# Altium footprint library CONVERSORES.PcbLib: 4 footprints
Each footprint in its own frame and in the unit in brackets; x right, y up, seen from the top. Pads: shape width x height; smd on the part's side, far side on the other; paste and mask are expansions set on the pad; w line width, h text height; cw(c..) or ccw(c..) is an arc to the next point about the centre after c.
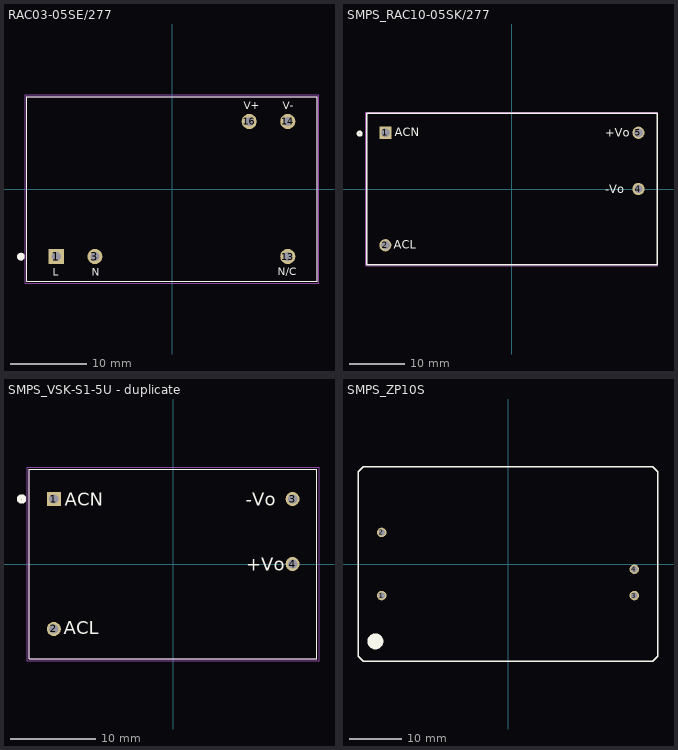
[diagram p0: the footprints below, top view; thin cyan lines are the x and y axes]

## RAC03-05SE/277 [mm] "Enclosed AC DC Converter 1 Output"
height 17.4
pads (5):
  rect 2x2 hole 1.2: 1(-15.24,-8.89)
  round 2 hole 1.2: 3(-10.16,-8.89) 13(15.24,-8.89) 14(15.24,8.89) 16(10.16,8.89)
Top Overlay:
  circle w0.5: c-19.9,-8.9 r0.25
  lines w0.127: -19.1,-12.15 19.1,-12.15 19.1,12.15 -19.1,12.15 -19.1,-12.15
  text "V-" at 14.6,10.5 h1
  text "V+" at 9.45,10.525 h1
  text "N/C" at 13.9,-11.35 h1
  text "N" at -10.575,-11.45 h1
  text "L" at -15.7,-11.45 h1
Mechanical 4:
  circle w0.5: c-19.9,-8.89 r0.25
  circle w0.5: c-19.9,-8.9 r0.25
  lines w0.127: -19.1,-12.15 19.1,-12.15 ; -19.1,-12.15 -19.1,12.15 ; -19.1,-12.15 19.1,-12.15 ; -19.1,-12.15 -19.1,12.15 ; -19.1,12.15 19.1,12.15 ; -19.1,12.15 19.1,12.15 ; 19.1,-12.15 19.1,12.15 ; 19.1,-12.15 19.1,12.15
Mechanical 16:
  lines w0.05: -19.35,-12.4 19.35,-12.4 19.35,12.4 -19.35,12.4 -19.35,-12.4
3D body: height 17.45, standoff 0.02, extent -19.1,-12.15 19.1,12.15
3D body: height 0, standoff -6.1, extent 14.739,-9.394 15.735,-8.396
3D body: height 0, standoff -6.1, extent 14.739,8.386 15.735,9.384
3D body: height 0, standoff -6.1, extent 9.659,8.386 10.655,9.384
3D body: height 0, standoff -6.1, extent -10.661,-9.394 -9.665,-8.396
3D body: height 0, standoff -6.1, extent -15.741,-9.394 -14.745,-8.396

## SMPS_RAC10-05SK/277 [mm] "Enclosed AC DC Converter 1 Output 5V 2A"
height 23
pads (4):
  rect 2.2x2.2 hole 1.6: 1(-22.86,10.16)
  round 2.2 hole 1.6: 2(-22.86,-10.16) 5(22.86,10.16)
  round 2.2 hole 1.5: 4(22.86,0)
Top Overlay:
  circle w0.5: c-27.5,10 r0.3
  lines w0.25: -26.25,-13.7 26.25,-13.7 26.25,13.7 -26.25,13.7 -26.25,-13.7
  text "-Vo" at 16.9,-0.8 h1.52
  text "+Vo" at 16.9,9.4 h1.52
  text "ACL" at -21.3,-10.8 h1.52
  text "ACN" at -21.2,9.5 h1.52
Mechanical 16:
  lines w0.05: -26.4,-13.9 -26.4,13.9 26.4,13.9 26.4,-13.9 -26.4,-13.9
3D body "52972.stp": height 23.95, standoff -9.55, extent -26.2,-13.6 26.2,13.6

## SMPS_VSK-S1-5U - duplicate [mm] "Enclosed AC DC Converter 1 OutpuT"
height 18
pads (4):
  rect 1.65x1.65 hole 1.1: 1(-14,7.62)
  round 1.65 hole 1.1: 2(-14,-7.62) 3(14,7.62) 4(14,0)
Top Overlay:
  circle w0.5: c-17.78,7.62 r0.3
  lines w0.127: -16.85,-11.1 -16.85,11.1 16.85,11.1 16.85,-11.1 -16.85,-11.1
  text "ACN" at -12.725,6.85 h1.52
  text "ACL" at -12.825,-8.25 h1.52
  text "+Vo" at 8.55,-0.8 h1.52
  text "-Vo" at 8.5,6.825 h1.52
Mechanical 4:
  circle w0.4: c-13.97,7.62 r0.2
  circle w0.4: c-13.97,7.62 r0.2
  lines w0.127: -16.85,-11.1 16.85,-11.1 ; -16.85,-11.1 -16.85,11.1 ; -16.85,-11.1 16.85,-11.1 ; -16.85,-11.1 -16.85,11.1 ; -16.85,11.1 16.85,11.1 ; -16.85,11.1 16.85,11.1 ; 16.85,-11.1 16.85,11.1 ; 16.85,-11.1 16.85,11.1
Mechanical 16:
  lines w0.05: -17.1,-11.35 17.1,-11.35 17.1,11.35 -17.1,11.35 -17.1,-11.35
3D body "CUI_VSK-S1-5U.step": height 18.02, standoff -5.98, extent -16.85,-11.1 16.85,11.1

## SMPS_ZP10S [mm] "10 watt AC/DC Single Output - PTH 4PIN"
height 27
pads (4):
  round 1.8 hole 1.2: 1(-24,-6) 2(-24,6) 3(24,-6) 4(24,-1)
Top Overlay:
  circle w2: c-25.2,-14.7 r0.5
  lines w0.25: -28.5,-17.5 -28.5,17.5 -27.5,18.5 27.5,18.5 28.5,17.5 28.5,-17.5 27.5,-18.5 -27.5,-18.5 -28.5,-17.5
3D body: height 1, standoff -2, extent -24.496,-6.499 -23.5,-5.501
3D body: height 1, standoff -2, extent -24.496,5.501 -23.5,6.499
3D body: height 1, standoff -2, extent 23.504,-1.499 24.5,-0.501
3D body: height 1, standoff -2, extent 23.504,-6.499 24.5,-5.501
3D body: height 27, standoff 0.05, extent -28.5,-18.5 28.5,18.5